# EAGLE library part INA125UA (library RitLaunchInitiative)
The INA125 is a low power, high accuracy instrumentation amplifier with a precision voltage reference. It provides complete bridge excitation and precision differential-input amplification on a single integrated circuit. -------------------------------------------------------------------------------------------------------------------------------- A single external resistor sets any gain from 4 to 10,000. The INA125 is laser-trimmed for low offset voltage (250µV), low offset drift (2µV/°C), and high common-mode rejection (100dB at G = 100). It operates on single (+2.7V to +36V) or dual (±1.35V to ±18V) supplies. -------------------------------------------------------------------------------------------------------------------------------- The voltage reference is externally adjustable with pinselectable voltages of 2.5V, 5V, or 10V, allowing use with a variety of transducers. The reference voltage is accurate to ±0.5% (max) with ±35ppm/°C drift (max). Sleep mode allows shutdown and duty cycle operation to save power.
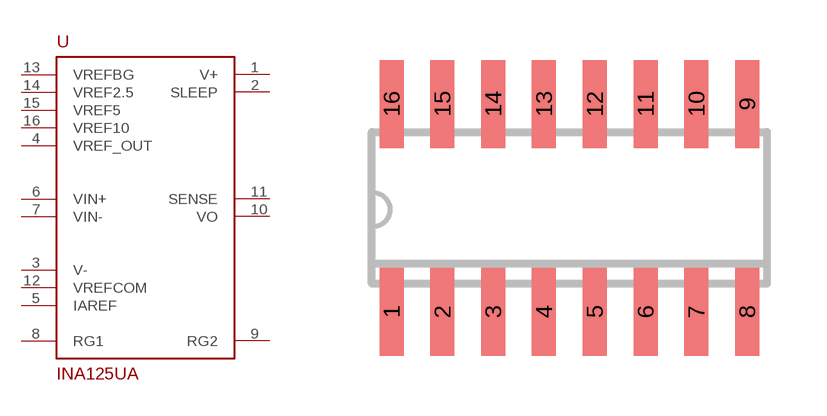
[diagram p0: symbol with the pads of SO16; footprint SO16]

Designator prefix -

## INA125UA (DATASHEET_LINK: http://www.ti.com/lit/ds/symlink/ina125.pdf; DIGIKEY_PART_NUMBER: INA125UA-ND)  [SO16]
1  V+
2  SLEEP
3  V-
4  VREF_OUT
5  IAREF
6  VIN+
7  VIN-
8  RG1
9  RG2
10  VO
11  SENSE
12  VREFCOM
13  VREFBG
14  VREF2.5
15  VREF5
16  VREF10

## Footprint SO16 (pad centres in mm)
smd 0.6 x 2.2: 1 -4.445,-2.6; 2 -3.175,-2.6; 3 -1.905,-2.6; 4 -0.635,-2.6; 5 0.635,-2.6; 6 1.905,-2.6; 7 3.175,-2.6; 8 4.445,-2.6; 9 4.445,2.6; 10 3.175,2.6; 11 1.905,2.6; 12 0.635,2.6; 13 -0.635,2.6; 14 -1.905,2.6; 15 -3.175,2.6; 16 -4.445,2.6